# Altium integrated library 395011003.IntLib: 1 symbol
Pins are listed as number, name and electrical type; pins without a type are passive.

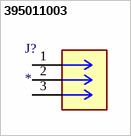
[diagram p0: symbol 395011003]

## 395011003
designator J?
MP: 395011003; Package: None; Price: None; Value: *; Availability: Unavailable
footprint CONN_39501-1003_MOL
pins: 1, 2, 3